# Altium footprint library TAG_V2.PcbLib: 27 footprints (part 1 of 2)
Each footprint in its own frame and in the unit in brackets; x right, y up, seen from the top. Pads: shape width x height; smd on the part's side, far side on the other; paste and mask are expansions set on the pad; w line width, h text height; cw(c..) or ccw(c..) is an arc to the next point about the centre after c.
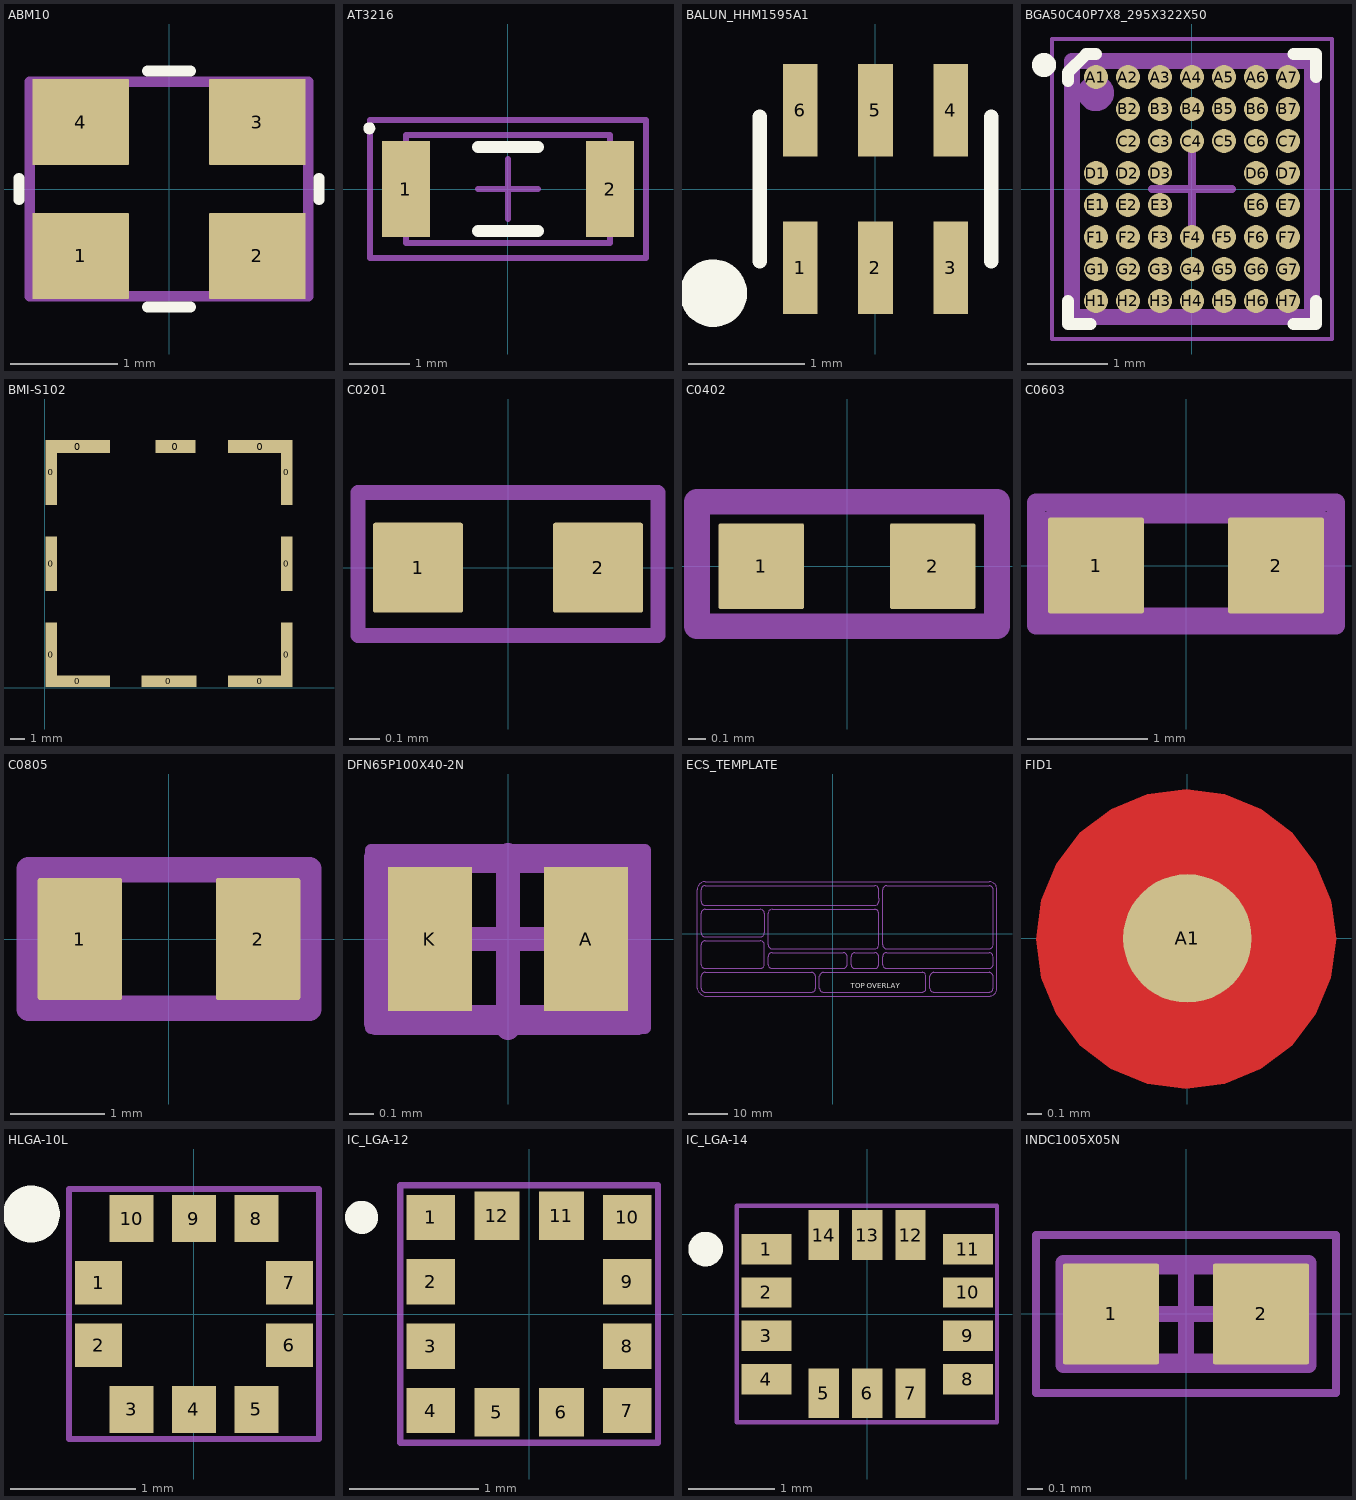
[diagram p0: the footprints below, top view; thin cyan lines are the x and y axes]

## ABM10 [mm]
pads (4):
  rrect1% 0.9x0.8 smd: 1(-0.825,-0.625) 2(0.825,-0.625) 3(0.825,0.625) 4(-0.825,0.625)
Top Overlay:
  lines w0.102: -1.4,-0.1 -1.4,0.1 ; -0.2,-1.1 0.2,-1.1 ; -0.2,1.1 0.2,1.1 ; 1.4,-0.1 1.4,0.1
Mechanical 16:
  circle w0.254: c-1.1,-0.8 r0.1
  lines w0.1: -1.3,-1 1.3,-1 1.3,1 -1.3,1 -1.3,-1
Mechanical 29:
  text ".Designator" at -1,-0.3 h1
Mechanical 30:
  text "2CAT" at -1.05,-0.25 h0.6
3D body: height 0.51, standoff 0, extent -1.244,-1.003 1.245,1.004

## AT3216 [mm] "Chip Antenna 2-Leads, Body 3,20x1,60mm"
height 1.4
pads (2):
  rect 0.8x1.6 smd: 1(-1.7,0) 2(1.7,0)
Top Overlay:
  circle w0.1: c-2.312,1.012 r0.05
  lines w0.2: -0.5,-0.7 0.5,-0.7 ; -0.5,0.7 0.5,0.7
Mechanical 13:
  lines w0.1: -1.7,-0.9 -1.7,0.9 1.7,0.9 1.7,-0.9 -1.7,-0.9
Mechanical 15:
  lines w0.05: -2.3,-1.15 -2.3,1.15 2.3,1.15 2.3,-1.15 -2.3,-1.15
  lines w0.1: -0.5,0 0.5,0 ; 0,-0.5 0,0.5
Mechanical 16:
  lines w0.1: -2.3,-1.15 2.3,-1.15 2.3,1.15 -2.3,1.15 -2.3,-1.15
Mechanical 29:
  text ".Designator" at 0.725,0.35 h0.76
Mechanical 30:
  text ".Comment" at 2.175,0.1 h0.3
3D body: height 1.4, standoff 0, extent -1.7,-0.9 1.7,0.9
3D body: height 1.41, standoff 0, extent -1.2,-0.2 -0.4,0.2

## BALUN_HHM1595A1 [mm]
pads (6):
  rect 0.3x0.8 smd: 1(-0.65,-0.68) 2(0,-0.68) 3(0.65,-0.68) 4(0.65,0.68) 5(0,0.68) 6(-0.65,0.68)
Top Overlay:
  circle w0.3: c-1.4,-0.9 r0.141
  lines w0.127: -1,-0.625 -1,0.375 -1,0.625 ; 1,-0.625 1,0.625
Mechanical 16:
  lines w0.1: -1,-0.625 -1,0.625 -1,-0.625 ; 1,-0.625 1,0.625 1,-0.625
Mechanical 29:
  text ".Designator" at 0.5,-0.5 h1
Mechanical 30:
  text ".Comment" at 0.2,-0.7 h0.3
3D body: height 0.8, standoff 0, extent -1,-0.625 1,0.625

## BGA50C40P7X8_295X322X50 [mm]
pads (50):
  round 0.3 smd mask-0.03: A1(-1.2,1.4) A2(-0.8,1.4) A3(-0.4,1.4) A4(0,1.4) A5(0.4,1.4) A6(0.8,1.4) A7(1.2,1.4) B2(-0.8,1) B3(-0.4,1) B4(0,1) B5(0.4,1) B6(0.8,1) B7(1.2,1) C2(-0.8,0.6) C3(-0.4,0.6) C4(0,0.6) C5(0.4,0.6) C6(0.8,0.6) C7(1.2,0.6) D1(-1.2,0.2) D2(-0.8,0.2) D3(-0.4,0.2) D6(0.8,0.2) D7(1.2,0.2) E1(-1.2,-0.2) E2(-0.8,-0.2) E3(-0.4,-0.2) E6(0.8,-0.2) E7(1.2,-0.2) F1(-1.2,-0.6) F2(-0.8,-0.6) F3(-0.4,-0.6) F4(0,-0.6) F5(0.4,-0.6) F6(0.8,-0.6) F7(1.2,-0.6) G1(-1.2,-1) G2(-0.8,-1) G3(-0.4,-1) G4(0,-1) G5(0.4,-1) G6(0.8,-1) G7(1.2,-1) H1(-1.2,-1.4) H2(-0.8,-1.4) H3(-0.4,-1.4) H4(0,-1.4) H5(0.4,-1.4) H6(0.8,-1.4) H7(1.2,-1.4)
Top Overlay:
  circle w0.2: c-1.85,1.55 r0.05
  lines w0.01: 1.27,-1.685 1.55,-1.685 ; -1.55,-1.685 -1.27,-1.685 -1.55,-1.685
  lines w0.15: -1.55,-1.397 -1.55,-1.685 -1.27,-1.685 ; -1.55,1.35 -1.55,1.458 -1.323,1.685 -1.2,1.685 ; 1.27,-1.685 1.55,-1.685 1.55,-1.397 ; 1.27,1.685 1.55,1.685 1.55,1.397
Mechanical 13:
  lines w0.1: -1.475,-1.61 1.475,-1.61 1.475,1.61 -1.475,1.61 -1.475,-1.61
Mechanical 15:
  lines w0.05: -1.75,-1.875 1.75,-1.875 1.75,1.875 -1.75,1.875 -1.75,-1.875
  lines w0.1: -0.5,0 0.5,0 ; 0,-0.5 0,0.5
Mechanical 16:
  circle w0.254: c-1.2,1.2 r0.1
  lines w0.2: -1.5,-1.6 -1.5,1.6 1.5,1.6 1.5,-1.6 -1.4,-1.6
Mechanical 29:
  text ".Designator" at 0.545,0.31 h0.7
Mechanical 30:
  text ".Comment" at 1.25,-0.175 h0.2
3D body: height 0.51, standoff 0.5, extent -1.2,1.135 -1,1.335
3D body: height 0.5, standoff 0, extent -1.475,-1.61 1.475,1.61

## BMI-S102 [mm]
height 3.6
pads (12):
  rect 0.8x4.5 smd: 0(0.45,2.3) 0(0.45,15) 0(16.85,2.3) 0(16.85,15)
  rect 0.8x3.8 smd: 0(0.45,8.65) 0(16.85,8.65)
  rect 4.5x0.8 smd: 0(2.3,0.45) 0(15,0.45)
  rect 4.5x0.9 smd: 0(2.3,16.8) 0(15,16.8)
  rect 3.8x0.8 smd: 0(8.65,0.45)
  rect 2.8x0.9 smd: 0(9.1,16.8)
3D body: height 3.6, standoff 0, extent 0.4,0.35 16.9,16.85

## C0201 [mm]
pads (2):
  rrect5% 0.3x0.3 smd: 1(-0.3,0) 2(0.3,0)
Mechanical 16:
  lines w0.05: -0.5,-0.225 -0.5,0.25 0.5,0.25 0.5,-0.225 -0.5,-0.225
Mechanical 29:
  text ".Designator" at -0.4,-0.125 h0.3
Mechanical 30:
  text ".Comment" at -0.425,-0.1 h0.2
3D body: height 0.3, standoff 0, extent -0.3,-0.15 0.3,0.15

## C0402 [mm]
pads (2):
  rrect5% 0.5x0.5 smd: 1(-0.5,0) 2(0.5,0)
Mechanical 16:
  lines w0.15: -0.875,-0.35 -0.875,0.375 0.875,0.375 0.875,-0.35 -0.875,-0.35
Mechanical 29:
  text ".Designator" at -0.55,-0.195 h0.4
Mechanical 30:
  text ".Comment" at -0.525,-0.175 h0.4
3D body: height 0.56, standoff 0, extent -0.5,-0.25 0.5,0.25

## C0603 [mm]
pads (2):
  rrect5% 0.8x0.8 smd: 1(-0.75,0) 2(0.75,0)
Mechanical 16:
  lines w0.1: -1.15,-0.4 1.15,-0.4 1.15,0.4 -1.15,0.4 -1.15,-0.4
  lines w0.15: -1.25,-0.5 -1.25,0.525 1.25,0.525 1.25,-0.5 -1.25,-0.5
Mechanical 29:
  text ".Designator" at -0.8,-0.25 h0.5
Mechanical 30:
  text ".Comment" at -0.79,-0.265 h0.5
3D body: height 0.95, standoff 0.15, extent -0.8,-0.425 0.8,0.435
3D body: height 0.79, standoff 0, extent -0.8,-0.425 0.8,0.435

## C0805 [mm]
pads (2):
  rrect5% 0.9x1.3 smd: 1(-0.95,0) 2(0.95,0)
Mechanical 16:
  lines w0.1: -1.4,-0.65 -1.4,0.65 1.4,0.65 1.4,-0.65 -1.4,-0.65
  lines w0.254: -1.5,-0.75 1.5,-0.75 1.5,0.75 -1.5,0.75 -1.5,-0.75
Mechanical 29:
  text ".Designator" at 1.06,0.355 h0.8
Mechanical 30:
  text ".Comment" at 1.235,0.43 h0.7
3D body: height 0.95, standoff 0, extent -1,-0.6 1,0.6
3D body: height 1.5, standoff 0.55, extent -1,-0.6 1,0.6

## DFN65P100X40-2N [mm]
pads (2):
  rect 0.35x0.6 smd: A(0.325,0) K(-0.325,0)
Mechanical 13:
  lines w0.1: -0.525,-0.325 0.525,-0.325 0.525,0.325 -0.525,0.325 -0.525,-0.325
Mechanical 15:
  lines w0.05: -0.57,-0.37 0.57,-0.37 0.57,0.37 -0.57,0.37 -0.57,-0.37
  lines w0.1: -0.5,0 0.5,0 ; 0,-0.37 0,0.35
Mechanical 16:
  circle w0.254: c-0.39,0.17 r0.041
  lines w0.1: -0.55,-0.35 0.54,-0.35 0.54,0.34 -0.55,0.34 -0.55,-0.35
Mechanical 29:
  text ".Designator" at -0.125,-0.15 h0.3
Mechanical 30:
  text ".Comment" at -1.075,0.525 h0.3
3D body: height 0.41, standoff 0, extent -0.5,-0.275 -0.35,0.275
3D body: height 0.4, standoff 0, extent -0.525,-0.325 0.525,0.325

## ECS_TEMPLATE [mm]
height 1.2
Top Overlay:
  text "TOP OVERLAY" at 4.483,-13.776 h1.27
Bottom Overlay:
  text "BOTTOM OVERLAY" at 4.242,-14.013 h1.27
Top Solder:
Mechanical 8:
  lines w0.203: -34.401,-13.748 -34.401,11.252 ; -33.401,-13.748 -33.401,-10.748 ; -33.401,-7.748 -33.401,-2.748 ; -33.401,0.252 -33.401,5.252 ; -33.401,8.252 -33.401,11.252 ; -32.401,-15.748 39.599,-15.748 ; -32.401,-14.748 -5.401,-14.748 ; -32.401,-9.748 -5.401,-9.748 ; -32.401,-8.748 -18.401,-8.748 ; -32.401,-1.748 -18.401,-1.748 ; -32.401,-0.748 -18.401,-0.748 ; -32.401,6.252 -18.401,6.252 ; -32.401,7.252 10.599,7.252 ; -32.401,12.252 10.599,12.252 ; -32.401,13.252 39.599,13.252 ; -17.401,-7.748 -17.401,-2.748 ; -17.401,0.252 -17.401,5.252 ; -16.401,-7.748 -16.401,-5.748 ; -16.401,-2.748 -16.401,5.252 ; -15.401,-8.748 2.599,-8.748 ; -15.401,-4.748 2.599,-4.748 ; -15.401,-3.748 10.599,-3.748 ; -15.401,6.252 10.599,6.252 ; -4.401,-13.748 -4.401,-10.748 ; -3.401,-13.748 -3.401,-10.748 ; -2.401,-14.748 22.599,-14.748 ; -2.401,-9.748 22.599,-9.748 ; 3.599,-7.748 3.599,-5.748 ; 4.599,-7.748 4.599,-5.748 ; 5.599,-8.748 10.599,-8.748 ; 5.599,-4.748 10.599,-4.748 ; 11.599,-7.748 11.599,-5.748 ; 11.599,-2.748 11.599,5.252 ; 11.599,8.252 11.599,9.002 ; 11.599,11.252 11.599,10.502 ; 12.599,-7.748 12.599,-5.748 ; 12.599,-2.748 12.599,11.252 ; 13.599,-8.748 39.599,-8.748 ; 13.599,-4.748 39.599,-4.748 ; 13.599,-3.748 39.599,-3.748 ; 13.599,12.252 38.599,12.252 39.599,12.252 ; 23.599,-13.748 23.599,-10.748 ; 24.599,-13.748 24.599,-10.748 ; 25.599,-14.748 39.599,-14.748 ; 25.599,-9.748 39.599,-9.748 ; 40.599,-13.748 40.599,-10.748 ; 40.599,-7.748 40.599,-5.748 ; 40.599,-2.748 40.599,11.252 ; 41.599,-13.748 41.599,11.252 ; 11.599,9.002 11.599,10.502 ; 11.599,9.002 11.599,9.002 ; 11.599,10.502 11.599,10.502
  lines w0.254: -34.401,-13.748 ccw(c-31.901,-13.248) -31.401,-15.748 ; -34.401,11.252 cw(c-32.401,11.252) -32.401,13.252 ; -33.401,-13.748 ccw(c-32.401,-13.748) -32.401,-14.748 ; -33.401,-10.748 cw(c-32.401,-10.748) -32.401,-9.748 ; -33.401,-7.748 ccw(c-32.401,-7.748) -32.401,-8.748 ; -33.401,-2.748 cw(c-32.401,-2.748) -32.401,-1.748 ; -33.401,0.252 ccw(c-32.401,0.252) -32.401,-0.748 ; -33.401,5.252 cw(c-32.401,5.252) -32.401,6.252 ; -33.401,8.252 ccw(c-32.401,8.252) -32.401,7.252 ; -33.401,11.252 cw(c-32.401,11.252) -32.401,12.252 ; -18.401,-8.748 ccw(c-18.401,-7.748) -17.401,-7.748 ; -18.401,-1.748 cw(c-18.401,-2.748) -17.401,-2.748 ; -18.401,-0.748 ccw(c-18.401,0.252) -17.401,0.252 ; -18.401,6.252 cw(c-18.401,5.252) -17.401,5.252 ; -16.401,-7.748 ccw(c-15.401,-7.748) -15.401,-8.748 ; -16.401,-5.748 cw(c-15.401,-5.748) -15.401,-4.748 ; -16.401,-2.748 ccw(c-15.401,-2.748) -15.401,-3.748 ; -16.401,5.252 cw(c-15.401,5.252) -15.401,6.252 ; -5.401,-14.748 ccw(c-5.401,-13.748) -4.401,-13.748 ; -5.401,-9.748 cw(c-5.401,-10.748) -4.401,-10.748 ; -3.401,-13.748 ccw(c-2.401,-13.748) -2.401,-14.748 ; -3.401,-10.748 cw(c-2.401,-10.748) -2.401,-9.748 ; 2.599,-8.748 ccw(c2.599,-7.748) 3.599,-7.748 ; 2.599,-4.748 cw(c2.599,-5.748) 3.599,-5.748 ; 4.599,-7.748 ccw(c5.599,-7.748) 5.599,-8.748 ; 4.599,-5.748 cw(c5.599,-5.748) 5.599,-4.748 ; 10.599,-8.748 ccw(c10.599,-7.748) 11.599,-7.748 ; 10.599,-4.748 cw(c10.599,-5.748) 11.599,-5.748 ; 10.599,-3.748 ccw(c10.599,-2.748) 11.599,-2.748 ; 10.599,6.252 cw(c10.599,5.252) 11.599,5.252 ; 10.599,7.252 ccw(c10.599,8.252) 11.599,8.252 ; 10.599,12.252 cw(c10.599,11.252) 11.599,11.252 ; 12.599,-7.748 ccw(c13.599,-7.748) 13.599,-8.748 ; 12.599,-5.748 cw(c13.599,-5.748) 13.599,-4.748 ; 12.599,-2.748 ccw(c13.599,-2.748) 13.599,-3.748 ; 12.599,11.252 cw(c13.599,11.252) 13.599,12.252 ; 22.599,-14.748 ccw(c22.599,-13.748) 23.599,-13.748 ; 22.599,-9.748 cw(c22.599,-10.748) 23.599,-10.748 ; 24.599,-13.748 ccw(c25.599,-13.748) 25.599,-14.748 ; 24.599,-10.748 cw(c25.599,-10.748) 25.599,-9.748 ; 39.599,-15.748 ccw(c39.599,-13.748) 41.599,-13.748 ; 39.599,-14.748 ccw(c39.599,-13.748) 40.599,-13.748 ; 39.599,-9.748 cw(c39.599,-10.748) 40.599,-10.748 ; 39.599,-8.748 ccw(c39.599,-7.748) 40.599,-7.748 ; 39.599,-4.748 cw(c39.599,-5.748) 40.599,-5.748 ; 39.599,-3.748 ccw(c39.599,-2.748) 40.599,-2.748 ; 39.599,12.252 cw(c39.599,11.252) 40.599,11.252 ; 39.599,13.252 cw(c39.599,11.252) 41.599,11.252
  text "2/1/2018" at 22.098,-6.731 h1.02
  text "TAG.PcbDoc" at -21.285,-13.733 h1.27
  text "Altium" at 30.607,-12.065 h1.27
  text "AOA-KIT-TAG" at -7.59,-0.549 h1.27
  text "COMPANY:" at -32.401,9.252 h1.27
  text "ENGINEER:" at -32.401,4.252 h1.27
  text "TITLE:" at -15.401,4.252 h1.27
  text "CAD DESIGN:" at -32.401,-3.748 h1.27
  text "PARTNO:" at -15.401,-6.748 h1.27
  text "REV" at 5.842,-6.223 h1.02
  text "FILE NAME:" at -32.401,-11.748 h1.27
  text "LAYER:" at -2.401,-11.748 h1.27
  text "CAD:" at 25.599,-11.748 h1.02
  text "DATE:" at 13.599,-6.748 h1.02
  text "COMPANY ADDRESS:" at 13.208,10.414 h1.02
Drill Drawing:
  text "DRILL DRAWING" at 1.422,-13.995 h1.27

## FID1 [mm]
pads (1):
  round 0.9 smd paste-0.5 mask+0.4: A1(0,0)
Top Layer:
  pour cut-out: -0.93,-0.503 -0.919,-0.529 -0.752,-0.747 -0.535,-0.914 -0.281,-1.018 -0.01,-1.054 0.262,-1.018 0.515,-0.914 0.733,-0.747 0.9,-0.529 1.005,-0.276 1.04,-0.004 1.007,0.252 1.005,0.268 0.9,0.521 0.733,0.738 0.515,0.905 0.262,1.01 -0.01,1.046 -0.281,1.01 -0.535,0.905 -0.752,0.738 -0.919,0.521 -1.024,0.268 -1.06,-0.004 -1.024,-0.276

## HLGA-10L [mm]
pads (10):
  rect 0.375x0.35 smd paste-0.04 mask+0.1: 1(-0.763,0.25) 2(-0.763,-0.25) 6(0.763,-0.25) 7(0.763,0.25)
  rect 0.35x0.375 smd paste-0.04 mask+0.1: 3(-0.5,-0.763) 4(0,-0.763) 5(0.5,-0.763) 8(0.5,0.763) 9(0,0.763) 10(-0.5,0.763)
Top Overlay:
  circle w0.254: c-1.3,0.8 r0.1
Mechanical 16:
  lines w0.05: -1,-1 -1,1 1,1 1,-1 -1,-1
Mechanical 29:
  text ".Designator" at 0.825,0.525 h1
Mechanical 30:
  text ".Comment" at 0.925,0.2 h0.28
3D body: height 0.76, standoff 0, extent -1,-1 1,1

## IC_LGA-12 [mm] "LIS2MDL"
height 0.7
pads (12):
  rect 0.375x0.35 smd paste-0.04 mask+0.1: 1(-0.763,0.75) 2(-0.763,0.25) 3(-0.763,-0.25) 4(-0.763,-0.75) 7(0.763,-0.75) 8(0.763,-0.25) 9(0.763,0.25) 10(0.763,0.75)
  rect 0.35x0.375 smd paste-0.04 mask+0.1: 5(-0.25,-0.763) 6(0.25,-0.763) 11(0.25,0.763) 12(-0.25,0.763)
Top Overlay:
  circle w0.2: c-1.3,0.75 r0.028
Mechanical 16:
  lines w0.05: -1,-1 1,-1 1,1 -1,1 -1,-1
Mechanical 29:
  text ".Designator" at 0.775,0.5 h1
Mechanical 30:
  text ".Comment" at 0.85,0.05 h0.25
3D body: height 0.7, standoff 0, extent -1,-1 1,1

## IC_LGA-14 [mm] "LSM6DSL"
height 0.86
pads (14):
  rect 0.575x0.35 smd paste-0.04 mask+0.1: 1(-1.162,0.75) 2(-1.162,0.25) 3(-1.162,-0.25) 4(-1.162,-0.75) 8(1.162,-0.75) 9(1.162,-0.25) 10(1.162,0.25) 11(1.162,0.75)
  rect 0.35x0.575 smd paste-0.04 mask+0.1: 5(-0.5,-0.913) 6(0,-0.913) 7(0.5,-0.913) 12(0.5,0.913) 13(0,0.913) 14(-0.5,0.913)
Top Overlay:
  circle w0.2: c-1.863,0.75 r0.1
Mechanical 16:
  lines w0.05: -1.502,-1.249 1.498,-1.249 1.498,1.251 -1.502,1.251 -1.502,-1.249
Mechanical 29:
  text ".Designator" at -1.25,-0.825 h1.52
Mechanical 30:
  text ".Comment" at -1.375,-0.175 h0.4
3D body: height 0.85, standoff -0.01, extent -1.502,-1.249 1.498,1.251

## INDC1005X05N [mm]
pads (2):
  rrect5% 0.61x0.64 smd: 1(-0.475,0) 2(0.475,0)
Mechanical 13:
  lines w0.1: -0.55,-0.3 0.55,-0.3 0.55,0.3 -0.55,0.3 -0.55,-0.3
Mechanical 15:
  lines w0.05: -0.95,-0.5 0.95,-0.5 0.95,0.5 -0.95,0.5 -0.95,-0.5
  lines w0.1: -0.3,0 0.3,0 ; 0,-0.3 0,0.3
Mechanical 16:
  lines w0.1: -0.775,-0.325 -0.775,0.325 0.775,0.325 0.775,-0.325 -0.775,-0.325
Mechanical 29:
  text ".Designator" at -0.45,-0.245 h0.5
Mechanical 30:
  text ".Comment" at -0.725,-0.2 h0.4
3D body: height 0.5, standoff 0, extent -0.55,-0.3 0.55,0.3